# EAGLE library part ANTIC (library atari)
ANTIC
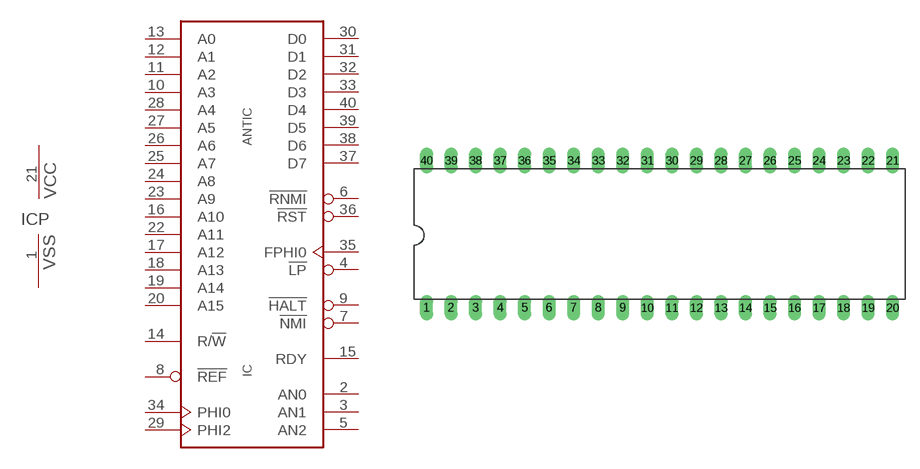
[diagram p9: symbol with the pads of DIL40; footprint DIL40]

Designator prefix IC; gates =ANTIC P=VCCVSS

## ANTIC  [DIL40]
1  P:VSS  pwr
2  :AN0  out
3  :AN1  out
4  :!LP  in
5  :AN2  out
6  :!RNMI  in
7  :!NMI  out
8  :!REF  out
9  :!HALT  out
10  :A3
11  :A2
12  :A1
13  :A0
14  :R/!W
15  :RDY  out
16  :A10  out
17  :A12  out
18  :A13  out
19  :A14  out
20  :A15  out
21  P:VCC  pwr
22  :A11  out
23  :A9  out
24  :A8  out
25  :A7  out
26  :A6  out
27  :A5  out
28  :A4  out
29  :PHI2  in
30  :D0  out
31  :D1  out
32  :D2  out
33  :D3  out
34  :PHI0  out
35  :FPHI0  in
36  :!RST  in
37  :D7  out
38  :D6  out
39  :D5  out
40  :D4  out

## Footprint DIL40 (pad centres in mm)
drill 0.813 long: 1 -24.13,-7.62; 2 -21.59,-7.62; 3 -19.05,-7.62; 4 -16.51,-7.62; 5 -13.97,-7.62; 6 -11.43,-7.62; 7 -8.89,-7.62; 8 -6.35,-7.62; 9 -3.81,-7.62; 10 -1.27,-7.62; 11 1.27,-7.62; 12 3.81,-7.62; 13 6.35,-7.62; 14 8.89,-7.62; 15 11.43,-7.62; 16 13.97,-7.62; 17 16.51,-7.62; 18 19.05,-7.62; 19 21.59,-7.62; 20 24.13,-7.62; 21 24.13,7.62; 22 21.59,7.62; 23 19.05,7.62; 24 16.51,7.62; 25 13.97,7.62; 26 11.43,7.62; 27 8.89,7.62; 28 6.35,7.62; 29 3.81,7.62; 30 1.27,7.62; 31 -1.27,7.62; 32 -3.81,7.62; 33 -6.35,7.62; 34 -8.89,7.62; 35 -11.43,7.62; 36 -13.97,7.62; 37 -16.51,7.62; 38 -19.05,7.62; 39 -21.59,7.62; 40 -24.13,7.62